# EAGLE library part AD8397 (library _PWM_driver)
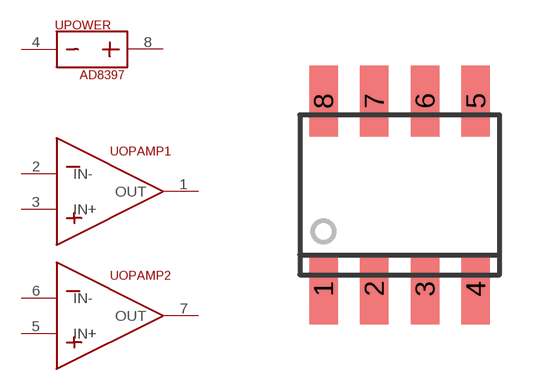
[diagram p3: symbol with the pads of SOIC-8; footprint SOIC-8]

Designator prefix -; gates OPAMP1=AD8397 OPAMP2=AD8397 POWER=GATE_POWER

## AD8397  [SOIC-8]
1  OPAMP1:OUT
2  OPAMP1:IN-
3  OPAMP1:IN+
4  POWER:NEG  pwr
5  OPAMP2:IN+
6  OPAMP2:IN-
7  OPAMP2:OUT
8  POWER:POS  pwr

## Footprint SOIC-8 (pad centres in mm)
smd 0.711 x 1.778: 1 -1.905,-2.349; 2 -0.635,-2.349; 3 0.635,-2.349; 4 1.905,-2.349; 5 1.905,2.349; 6 0.635,2.349; 7 -0.635,2.349; 8 -1.905,2.349